# Altium schematic symbol library FAN3111ESX.SchLib: 1 symbol
Pins are listed as number, name and electrical type; pins without a type are passive.

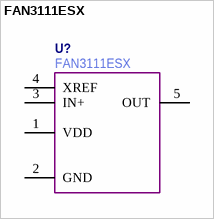
[diagram p0: symbol FAN3111ESX]

## FAN3111ESX
designator U?
Manufacturer Part Number: FAN3111ESX
pins: 1 VDD, 2 GND, 3 IN+, 4 XREF, 5 OUT